# Altium footprint library 5.22-mini_HDMI Micro_HDMI 母座.PcbLib: 2 footprints
Each footprint in its own frame and in the unit in brackets; x right, y up, seen from the top. Pads: shape width x height; smd on the part's side, far side on the other; paste and mask are expansions set on the pad; w line width, h text height; cw(c..) or ccw(c..) is an arc to the next point about the centre after c.
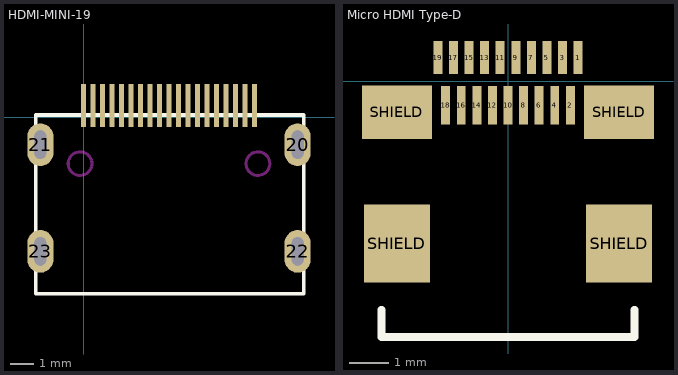
[diagram p0: the footprints below, top view; thin cyan lines are the x and y axes]

## HDMI-MINI-19 [mm] "HDMI-MINI-19pin JACK       [ PCBѧϰȺ514746572 ]"
height 5
pads (23):
  rect 0.22x1.8 smd: 1(7.2,0.5) 2(6.8,0.5) 3(6.4,0.5) 4(6,0.5) 5(5.6,0.5) 6(5.2,0.5) 7(4.8,0.5) 8(4.4,0.5) 9(4,0.5) 10(3.6,0.5) 11(3.2,0.5) 12(2.8,0.5) 13(2.4,0.5) 14(2,0.5) 15(1.6,0.5) 16(1.2,0.5) 17(0.8,0.5) 18(0.4,0.5) 19(0,0.5)
  oval 1.1x1.8 hole 0.5 slot 1.2 at 90 deg: 20(9.025,-1.15) 21(-1.825,-1.15) 22(9.025,-5.65) 23(-1.825,-5.65)
Top Overlay:
  lines w0.15: 9.282,0.093 9.282,-7.439 -2.019,-7.439 -2.019,0.1 9.283,0.1
Keep-Out Layer:
  circle w0.127: c7.35,-1.95 r0.5
  circle w0.127: c-0.15,-1.95 r0.5
3D body "miniHDMI19PIN.stp": height 3.27, standoff -1.03, extent -2.054,-7.514 9.146,0.486

## Micro HDMI Type-D [mm] "0.4mm Pitch, Surface Mount Right Angle 19 Contacts Micro HDMI Type-D Receptacle With Kapton Tape  And SMT Mounting Pads      [ PCBѧϰȺ514746572 ]"
height 2.9
pads (23):
  rect 0.23x0.85 smd: 1(1.8,0.613) 3(1.4,0.613) 5(1,0.613) 7(0.6,0.613) 9(0.2,0.613) 11(-0.2,0.613) 13(-0.6,0.613) 15(-1,0.613) 17(-1.4,0.613) 19(-1.8,0.613)
  rect 0.23x1 smd: 2(1.6,-0.613) 4(1.2,-0.613) 6(0.8,-0.613) 8(0.4,-0.613) 10(0,-0.613) 12(-0.4,-0.613) 14(-0.8,-0.613) 16(-1.2,-0.613) 18(-1.6,-0.613)
  rect 1.7x2 smd: SHIELD(-2.85,-4.163) SHIELD(2.85,-4.163)
  rect 1.8x1.38 smd: SHIELD(-2.85,-0.793) SHIELD(2.85,-0.793)
Top Overlay:
  lines w0.2: -3.25,-5.863 -3.25,-6.563 3.25,-6.563 3.25,-5.863
3D body "MOLEX_46765-0001.stp": height 2.97, standoff 0, extent -3.25,-6.562 3.25,0.938